# Altium schematic symbol library emi_filters.Schlib: 2 symbols
Pins are listed as number, name and electrical type; pins without a type are passive.

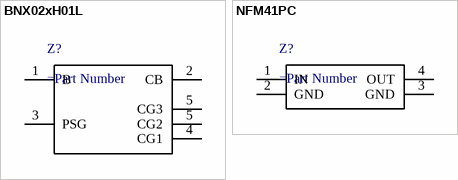
[diagram p0: symbols BNX02xH01L to NFM41PC]

## BNX02xH01L
designator Z?
pins: 1 B, 2 CB, 3 PSG, 4 CG1, 5 CG2, 5 CG3

## NFM41PC
designator Z?
pins: 1 IN, 2 GND, 3 GND, 4 OUT